# Altium footprint library SIMloc.PcbLib: 1 footprints
Each footprint in its own frame and in the unit in brackets; x right, y up, seen from the top. Pads: shape width x height; smd on the part's side, far side on the other; paste and mask are expansions set on the pad; w line width, h text height; cw(c..) or ccw(c..) is an arc to the next point about the centre after c.
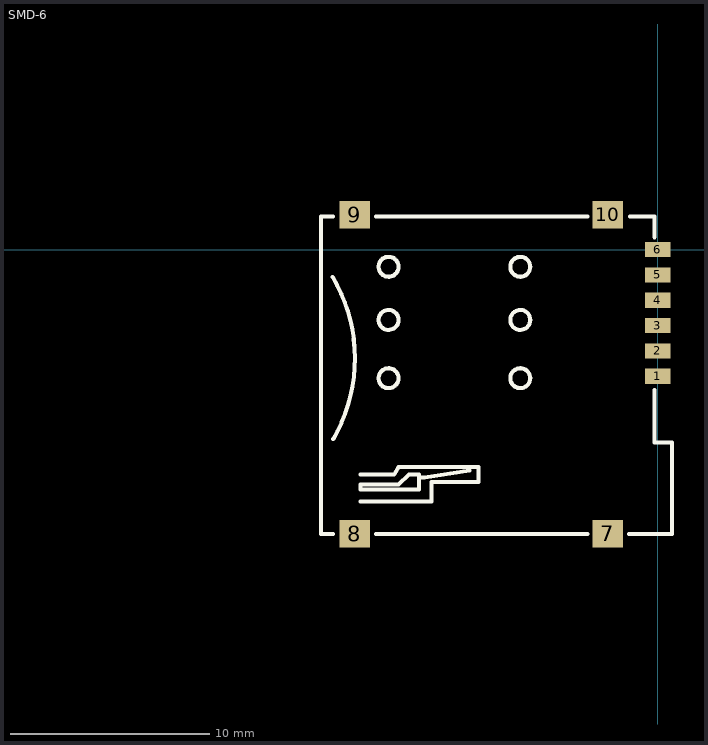
[diagram p0: the footprint, top view; thin cyan lines are the x and y axes]

## SMD-6 [mil]
pads (10):
  rect 50x30 smd: 1(0,-250) 2(0,-200) 3(0,-150) 4(0,-100) 5(0,-50) 6(0,0)
  rect 60x55 smd: 7(-98.43,-561.02) 8(-598.43,-561.02) 9(-598.43,68.9) 10(-98.43,68.9)
Top Overlay:
  circle w7.99: c-531.36,-33.9 r19.68
  circle w7.99: c-531.36,-138.9 r19.68
  circle w7.99: c-531.36,-253.9 r19.68
  circle w7.99: c-271.36,-253.9 r19.68
  circle w7.99: c-271.36,-138.9 r19.68
  circle w7.99: c-271.36,-33.9 r19.68
  lines w7.87: -586.36,-497.25 -446.36,-497.25 -446.36,-458.9 -353.64,-458.9 -353.64,-428.9 -511.36,-428.9 -520.48,-444.1 -586.36,-444.1 ; -469.78,-450 -459.94,-450 -371.36,-436.22 ; -586.36,-473.9 -586.36,-463.9 -511.36,-463.9 -491.36,-443.9 -471.36,-443.9 -471.36,-473.9 -586.36,-473.9
  lines w7.99: -641.88,-54.21 cw(c-912.66,-215.09) -640.85,-374.2
  lines w8: -641.04,-561 -665,-561 -665,65 -641.04,65 ; -556.4,-561 -139.07,-561 ; -556.4,65 -139.07,65 ; -56.4,-561 28.5,-561 28.5,-466.5 ; -54.43,65 -6.5,65 -6.5,24.41 ; -6.5,-276.78 -6.5,-381 28.5,-381 28.5,-473.5
3D body "SIM-SMD_XDSM-1020-0942B.step": height 49.61, standoff -3.66, extent -667.04,-573.13 10.12,76.09